# Altium schematic symbol library SCH - POWER - LINEAR VREG - TI TPS7A7002DDA.SchLib: 1 symbol
Pins are listed as number, name and electrical type; pins without a type are passive.

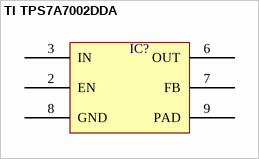
[diagram p0: symbol TI TPS7A7002DDA]

## TI TPS7A7002DDA
designator IC?  (value not drawn)
pins: 2 EN, 3 IN, 6 OUT, 7 FB, 8 GND, 9 PAD